# Altium schematic symbol library 16SEPC100M.SchLib: 1 symbol
Pins are listed as number, name and electrical type; pins without a type are passive.

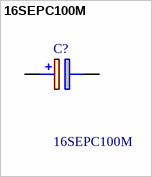
[diagram p0: symbol 16SEPC100M]

## 16SEPC100M
designator C?
Panasonic Aluminium Polymer Capacitor 100uF 16V dc 6.3mm Through Hole C6 OS-CON Series +105C; Geometry.Height: 6mm; Mouser Part Number: 667-16SEPC100M; Mouser Price/Stock: https://www.mouser.co.uk/ProductDetail/Panasonic/16SEPC100M?qs=OE1iw1LrrPGRx2gkoxhxNw%3D%3D; Manufacturer_Name: Panasonic; Manufacturer_Part_Number: 16SEPC100M; Datasheet Link: http://industrial.panasonic.com/cdbs/www-data/pdf/AAB8000/AAB8000C247.pdf
footprint CAPPRD250W50D630H600
pins: 1 +, 2 -